# Altium schematic symbol library BD1D50-Mitochondrik-LV.SchLib: 1 symbol
Pins are listed as number, name and electrical type; pins without a type are passive.

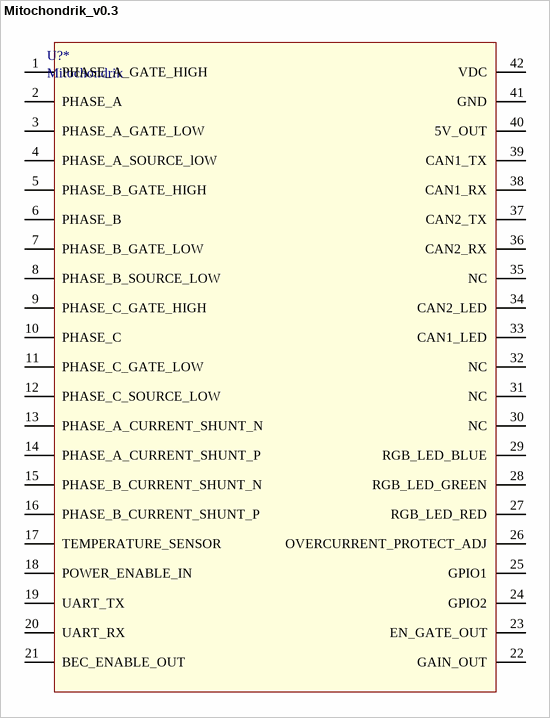
[diagram p0: symbol Mitochondrik_v0.3]

## Mitochondrik_v0.3
designator U?*, comment Mitochondrik
Integrated sensorless PMSM/BLDC motor controller chip for UAV and robotic propulsion systems; supports FOC, sine wave drive, vector control.
footprint mitochondrik
pins: 1 PHASE_A_GATE_HIGH "Phase A High Gate signal", 2 PHASE_A "Phase A Motor output", 3 PHASE_A_GATE_LOW "Phase A Low Gate signal", 4 PHASE_A_SOURCE_lOW "Phase A Low Source signal", 5 PHASE_B_GATE_HIGH "Phase B High Gate signal", 6 PHASE_B "Phase B Motor output", 7 PHASE_B_GATE_LOW "Phase B Low Gate signal", 8 PHASE_B_SOURCE_LOW "Phase B Low Source signal", 9 PHASE_C_GATE_HIGH "Phase C High Gate signal", 10 PHASE_C "Phase C Motor output", 11 PHASE_C_GATE_LOW "Phase C Low Gate signal", 12 PHASE_C_SOURCE_LOW "Phase C Low Source signal", 13 PHASE_A_CURRENT_SHUNT_N "Phase A current shunt amplifier input, motor side", 14 PHASE_A_CURRENT_SHUNT_P "Phase A current shunt amplifier input, ground side", 15 PHASE_B_CURRENT_SHUNT_N "Phase B current shunt amplifier input, motor side", 16 PHASE_B_CURRENT_SHUNT_P "Phase B current shunt amplifier input, ground side", 17 TEMPERATURE_SENSOR "VSI (power stage) temperature sensor voltage input", 18 POWER_ENABLE_IN "Main power control", 19 UART_TX "UART TX output", 20 UART_RX "UART RX output", 21 BEC_ENABLE_OUT "Auxiliary power output control output", 22 GAIN_OUT "Automatic gain control (AGC) status indication output", 23 EN_GATE_OUT "VSI activation indication output", 24 GPIO2 "Auxiliary I/O pin with configurable pull resistors as described in the Telega Reference Manual", 25 GPIO1 "Reserved", 26 OVERCURRENT_PROTECT_ADJ "Connection of the overcurrent protection adjustment resistor", 27 RGB_LED_RED "RGB LED output, red channel", 28 RGB_LED_GREEN "RGB LED output, green channel", 29 RGB_LED_BLUE "RGB LED output, blue channel", 30 NC "Do not connect", 31 NC "Do not connect", 32 NC "Do not connect", 33 CAN1_LED "CAN1 activity LED", 34 CAN2_LED "CAN2 activity LED", 35 NC "Do not connect", 36 CAN2_RX "CAN2 RX input", 37 CAN2_TX "CAN2 TX output", 38 CAN1_RX "CAN1 RX input", 39 CAN1_TX "CAN1 TX output", 40 5V_OUT "Buck converter output for external circuitry", 41 GND "Power ground", 42 VDC "DC Power supply input"